# EAGLE library part SI470*? (library Si470x)
The Si4704/05-D60 digital CMOS FM radio receiver IC integrates the complete tuner function from antenna input to digital audio output, enabling a cost efficient digital audio platform for consumer electronic applications with high TDMA noise immunity, superior radio performance, and high fidelity audio power amplification.
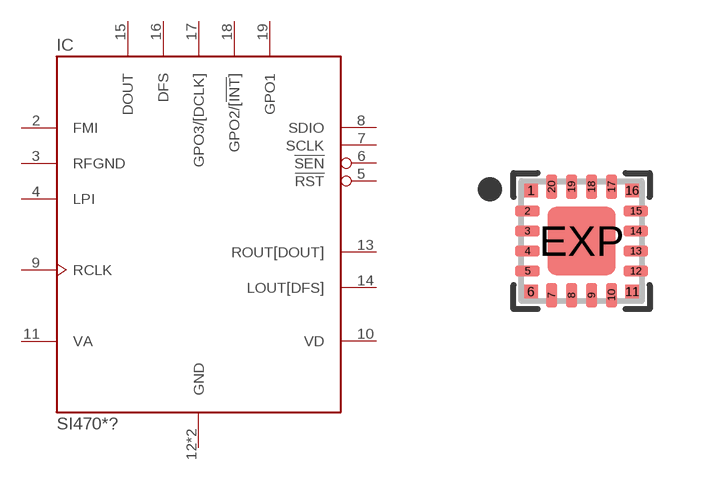
[diagram p0: symbol with the pads of QFN20; footprint QFN20]

Designator prefix IC

## SI4704-B20-GM (RDS: no; REV: B20), SI4704-C40-GM (RDS: no; REV: C40), SI4704-D60-GM (RDS: no; REV: D60), SI4705-B20-GM (RDS: yes; REV: B20), SI4705-C40-GM (RDS: yes; REV: C40), SI4705-D60-GM (RDS: yes; REV: D60)  [QFN20]
2  FMI  hiz
3  RFGND  pwr
4  LPI
5  !RST!  in
6  !SEN!  in
7  SCLK  in
8  SDIO
9  RCLK
10  VD  pwr
11  VA  pwr
12  GND  pwr
13  ROUT[DOUT]  out
14  LOUT[DFS]  out
15  DOUT  out
16  DFS  in
17  GPO3/[DCLK]
18  GPO2/[!INT!]
19  GPO1
EXP  GND  pwr

## Footprint QFN20 (pad centres in mm)
20-Pin Quad Flat No-Lead (QFN), 3x3mm
smd 0.34 x 0.34: 1 -1.265,1.265; 6 -1.265,-1.265; 11 1.265,-1.265; 16 1.265,1.265
smd 0.61 x 0.28: 2 -1.355,0.75; 3 -1.355,0.25; 4 -1.355,-0.25; 5 -1.355,-0.75; 12 1.355,-0.75; 13 1.355,-0.25; 14 1.355,0.25; 15 1.355,0.75
smd 0.28 x 0.61: 7 -0.75,-1.355; 8 -0.25,-1.355; 9 0.25,-1.355; 10 0.75,-1.355; 17 0.75,1.355; 18 0.25,1.355; 19 -0.25,1.355; 20 -0.75,1.355
smd 1.7 x 1.7: EXP 0,0